# Altium schematic symbol library MICB.SchLib: 19 symbols
Pins are listed as number, name and electrical type; pins without a type are passive.

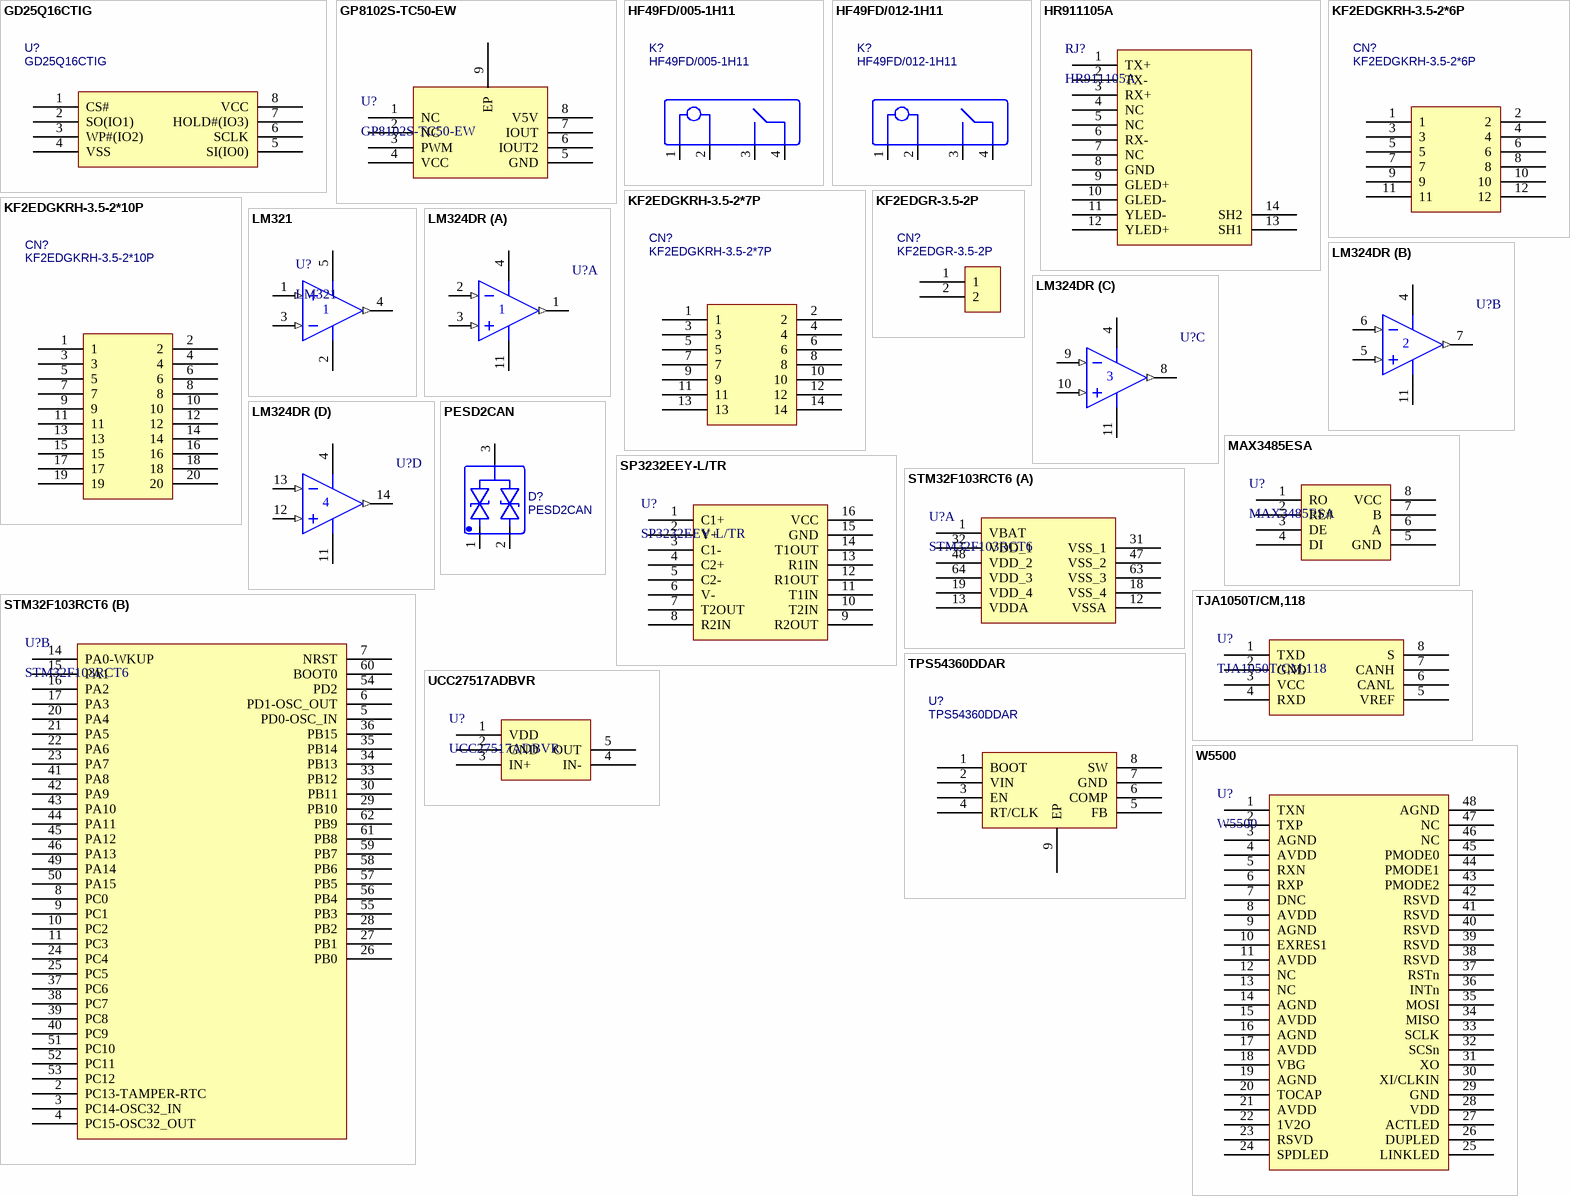
[diagram p0: symbols GD25Q16CTIG to W5500]

## GD25Q16CTIG
designator U?
spi flash; BOM_Manufacturer: XTX; BOM_Manufacturer Part: XT25F32BSOIGU-S; Contributor: LCSC; BOM_Supplier: LCSC; BOM_Supplier Part: C558851; BOM_JLCPCB Part Class: Extended Part; spicePre: U; spiceSymbolName: XT25F32BSOIGU-S
footprint SOP-8
pins: 1 CS#, 2 SO(IO1), 3 WP#(IO2), 4 VSS, 5 SI(IO0), 6 SCLK, 7 HOLD#(IO3), 8 VCC

## GP8102S-TC50-EW
designator U?
footprint ESOP8_N (5*6*1.8mm（长宽高）)
footprint ESOP8_M (5*6*1.8mm（长宽高）)
footprint ESOP8_L (5*6*1.8mm（长宽高）)
pins: 1 NC, 2 NC, 3 PWM, 4 VCC, 5 GND, 6 IOUT2, 7 IOUT, 8 V5V, 9 EP

## HF49FD/005-1H11
designator K?
BOM_Manufacturer: Xiamen Hongfa Electroacoustic; BOM_Manufacturer Part: HF49FD/012-1H12; Contributor: LCSC; BOM_Supplier: LCSC; BOM_Supplier Part: C399491; BOM_JLCPCB Part Class: Extended Part; spicePre: K; spiceSymbolName: HF49FD/012-1H12
footprint RELAY-TH_HF49FD-XXX-1H11-XXX
pins: 1, 2, 3, 4

## HF49FD/012-1H11
designator K?
BOM_Manufacturer: Xiamen Hongfa Electroacoustic; BOM_Manufacturer Part: HF49FD/012-1H12; Contributor: LCSC; BOM_Supplier: LCSC; BOM_Supplier Part: C399491; BOM_JLCPCB Part Class: Extended Part; spicePre: K; spiceSymbolName: HF49FD/012-1H12
footprint RELAY-TH_HF49FD-XXX-1H11-XXX
pins: 1, 2, 3, 4

## HR911105A
designator RJ?
带灯以太网接口
footprint RJ-45A12 (网线接口)
pins: 1 TX+, 2 TX-, 3 RX+, 4 NC, 5 NC, 6 RX-, 7 NC, 8 GND, 9 GLED+, 10 GLED-, 11 YLED-, 12 YLED+, 13 SH1, 14 SH2

## KF2EDGKRH-3.5-2*6P
designator CN?
12P 间距P=3.5mm / 插拔式接线端子; BOM_Manufacturer: KEFA(科发); Contributor: LCSC; BOM_Supplier: LCSC; BOM_Supplier Part: C2923165; BOM_Manufacturer Part: KF2EDGKRH-3.5-2*6P; spicePre: C; spiceSymbolName: KF2EDGKRH-3.5-2*6P
footprint CONN-TH_12P-P3.50_KEFA_KF2EDGKRH-3.5-2X6P
pins: 1, 2, 3, 4, 5, 6, 7, 8, 9, 10, 11, 12

## KF2EDGKRH-3.5-2*7P
designator CN?
14P 间距P=3.5mm / 插拔式接线端子; BOM_Manufacturer: KEFA(科发); Contributor: LCSC; BOM_Supplier: LCSC; BOM_Supplier Part: C2923166; BOM_Manufacturer Part: KF2EDGKRH-3.5-2*7P; spicePre: C; spiceSymbolName: KF2EDGKRH-3.5-2*7P_C2923166
footprint CONN-TH_14P-P3.50_KEFA_KF2EDGKRH-3.5-2X7P
pins: 1, 2, 3, 4, 5, 6, 7, 8, 9, 10, 11, 12, 13, 14

## KF2EDGKRH-3.5-2*10P
designator CN?
20P 间距P=3.5mm / 插拔式接线端子; BOM_Manufacturer: KEFA(科发); Contributor: LCSC; BOM_Supplier: LCSC; BOM_Supplier Part: C2923169; BOM_Manufacturer Part: KF2EDGKRH-3.5-2*10P; spicePre: C; spiceSymbolName: KF2EDGKRH-3.5-2*10P
footprint CONN-TH_20P-P3.50_KEFA_KF2EDGKRH-3.5-2X10P
pins: 1, 2, 3, 4, 5, 6, 7, 8, 9, 10, 11, 12, 13, 14, 15, 16, 17, 18, 19, 20

## KF2EDGR-3.5-2P
designator CN?
3.5mm 排数:1 每排P数:2 弯针 / 插拔式接线端子; BOM_Manufacturer: Cixi Kefa Elec; Contributor: LCSC; BOM_Supplier: LCSC; BOM_Supplier Part: C441171; BOM_Manufacturer Part: KF2EDGR-3.5-2P; BOM_JLCPCB Part Class: Extended Part; spicePre: C; spiceSymbolName: KF2EDGR-3.5-2P
footprint CONN-TH_P3.50_KF2EDGR-3.5-2P
pins: 1, 2

## LM321
designator U?
footprint SOT23-5L (3x1.6x1.1mm(长宽高))
footprint SOT23-5M (3x1.6x1.1mm(长宽高))
footprint SOT23-5N (3x1.6x1.1mm(长宽高))
pins: 1 IN+ (in), 2 V- (power), 3 IN- (in), 4 OUT (out), 5 V+ (power)

## LM324DR
designator U?
Quadruple Operational Amplifier; Published: 15-Apr-2002; LatestRevisionDate: 13-Apr-2006; LatestRevisionNote: IPC-7351 Footprint Added.; DatasheetVersion: Jan-1989; PackageVersion: Jan-1998; PackageReference: D014; Publisher: Altium Limited; PackageDescription: 14-Pin Small Outline Integrated Circuit 1.27 mm Pitch; Code_IPC: SOIC127P600-14; ComponentLink1Description: Manufacturer Link; ComponentLink1URL: http://www.ti.com/; ComponentLink2Description: Datasheet; ComponentLink2URL: http://www-s.ti.com/sc/ds/lm324.pdf
footprint D014_N (SOIC, 14-Leads, Body 8.7x3.9mm, Pitch 1.27mm, IPC Medium Density)
footprint D014_L (SOIC, 14-Leads, Body 8.7x3.9mm, Pitch 1.27mm, IPC High Density)
footprint D014_M (SOIC, 14-Leads, Body 8.7x3.9mm, Pitch 1.27mm, IPC Low Density)
3D model D014 (14-Pin Small Outline Integrated Circuit 1.27 mm Pitch)
pins on every part: 4 V+ (power), 11 V- (power)
part A pins: 1 OUT (out), 2 IN- (in), 3 IN+ (in)
part B pins: 5 IN+ (in), 6 IN- (in), 7 OUT (out)
part C pins: 8 OUT (out), 9 IN- (in), 10 IN+ (in)
part D pins: 12 IN+ (in), 13 IN- (in), 14 OUT (out)

## MAX3485ESA
designator U?
footprint SOP-8
pins: 1 RO, 2 RE#, 3 DE, 4 DI, 5 GND, 6 A, 7 B, 8 VCC

## PESD2CAN
designator D?
BOM_Manufacturer: DOWO; Contributor: LCSC; BOM_Supplier: LCSC; BOM_Supplier Part: C284078; BOM_Manufacturer Part: PESD2CAN; BOM_JLCPCB Part Class: Extended Part; spicePre: D; spiceSymbolName: PESD2CAN
footprint SOT23-3N (3x1.3x1mm(长宽高))
footprint SOT23-3L (3x1.3x1mm(长宽高))
footprint SOT23-3M (3x1.3x1mm(长宽高))
pins: 1, 2, 3

## SP3232EEY-L/TR
designator U?
footprint TSSOP16_N (5*6.4*1mm（长宽高）)
footprint TSSOP16_M (5*6.4*1mm（长宽高）)
footprint TSSOP16_L (5*6.4*1mm（长宽高）)
pins: 1 C1+, 2 V+, 3 C1-, 4 C2+, 5 C2-, 6 V-, 7 T2OUT, 8 R2IN, 9 R2OUT, 10 T2IN, 11 T1IN, 12 R1OUT, 13 R1IN, 14 T1OUT, 15 GND, 16 VCC

## STM32F103RCT6
designator U?
footprint LQFP64 10x10_L (64脚，体宽10x10mm，脚距0.5mm)
footprint LQFP64 10x10_M (64脚，体宽10x10mm，脚距0.5mm)
footprint LQFP64 10x10_N (64脚，体宽10x10mm，脚距0.5mm)
part A pins: 1 VBAT, 12 VSSA, 13 VDDA, 18 VSS_4, 19 VDD_4, 31 VSS_1, 32 VDD_1, 47 VSS_2, 48 VDD_2, 63 VSS_3, 64 VDD_3
part B pins: 2 PC13-TAMPER-RTC, 3 PC14-OSC32_IN, 4 PC15-OSC32_OUT, 5 PD0-OSC_IN, 6 PD1-OSC_OUT, 7 NRST, 8 PC0, 9 PC1, 10 PC2, 11 PC3, 14 PA0-WKUP, 15 PA1, 16 PA2, 17 PA3, 20 PA4, 21 PA5, 22 PA6, 23 PA7, 24 PC4, 25 PC5, 26 PB0, 27 PB1, 28 PB2, 29 PB10, 30 PB11, 33 PB12, 34 PB13, 35 PB14, 36 PB15, 37 PC6, 38 PC7, 39 PC8, 40 PC9, 41 PA8, 42 PA9, 43 PA10, 44 PA11, 45 PA12, 46 PA13, 49 PA14, 50 PA15, 51 PC10, 52 PC11, 53 PC12, 54 PD2, 55 PB3, 56 PB4, 57 PB5, 58 PB6, 59 PB7, 60 BOOT0, 61 PB8, 62 PB9

## TJA1050T/CM,118
designator U?
footprint SOP-8
pins: 1 TXD, 2 GND, 3 VCC, 4 RXD, 5 VREF, 6 CANL, 7 CANH, 8 S

## TPS54360DDAR
designator U?
BOM_Manufacturer: TI; BOM_Supplier: LCSC; BOM_Manufacturer Part: TPS54360DDAR; BOM_Supplier Part: C44377; BOM_JLCPCB Part Class: Extended Part; spicePre: U; spiceSymbolName: TPS54360DDAR
footprint SOP-8EP
pins: 1 BOOT, 2 VIN, 3 EN, 4 RT/CLK, 5 FB, 6 COMP, 7 GND, 8 SW, 9 EP

## UCC27517ADBVR
designator U?
footprint SOT23-5N (3x1.6x1.1mm(长宽高))
footprint SOT23-5L (3x1.6x1.1mm(长宽高))
footprint SOT23-5M (3x1.6x1.1mm(长宽高))
pins: 1 VDD, 2 GND, 3 IN+, 4 IN-, 5 OUT

## W5500
designator U?
footprint LQFP48 7X7_N (48脚，体宽7x7mm，脚距0.5mm)
footprint LQFP48 7X7_M (48脚，体宽7x7mm，脚距0.5mm)
footprint LQFP48 7X7_L (48脚，体宽7x7mm，脚距0.5mm)
pins: 1 TXN, 2 TXP, 3 AGND, 4 AVDD, 5 RXN, 6 RXP, 7 DNC, 8 AVDD, 9 AGND, 10 EXRES1, 11 AVDD, 12 NC, 13 NC, 14 AGND, 15 AVDD, 16 AGND, 17 AVDD, 18 VBG, 19 AGND, 20 TOCAP, 21 AVDD, 22 1V2O, 23 RSVD, 24 SPDLED, 25 LINKLED, 26 DUPLED, 27 ACTLED, 28 VDD, 29 GND, 30 XI/CLKIN, 31 XO, 32 SCSn, 33 SCLK, 34 MISO, 35 MOSI, 36 INTn, 37 RSTn, 38 RSVD, 39 RSVD, 40 RSVD, 41 RSVD, 42 RSVD, 43 PMODE2, 44 PMODE1, 45 PMODE0, 46 NC, 47 NC, 48 AGND